# Altium footprint library SMD Capacitors Electrolytic.PcbLib: 12 footprints
Each footprint in its own frame and in the unit in brackets; x right, y up, seen from the top. Pads: shape width x height; smd on the part's side, far side on the other; paste and mask are expansions set on the pad; w line width, h text height; cw(c..) or ccw(c..) is an arc to the next point about the centre after c.
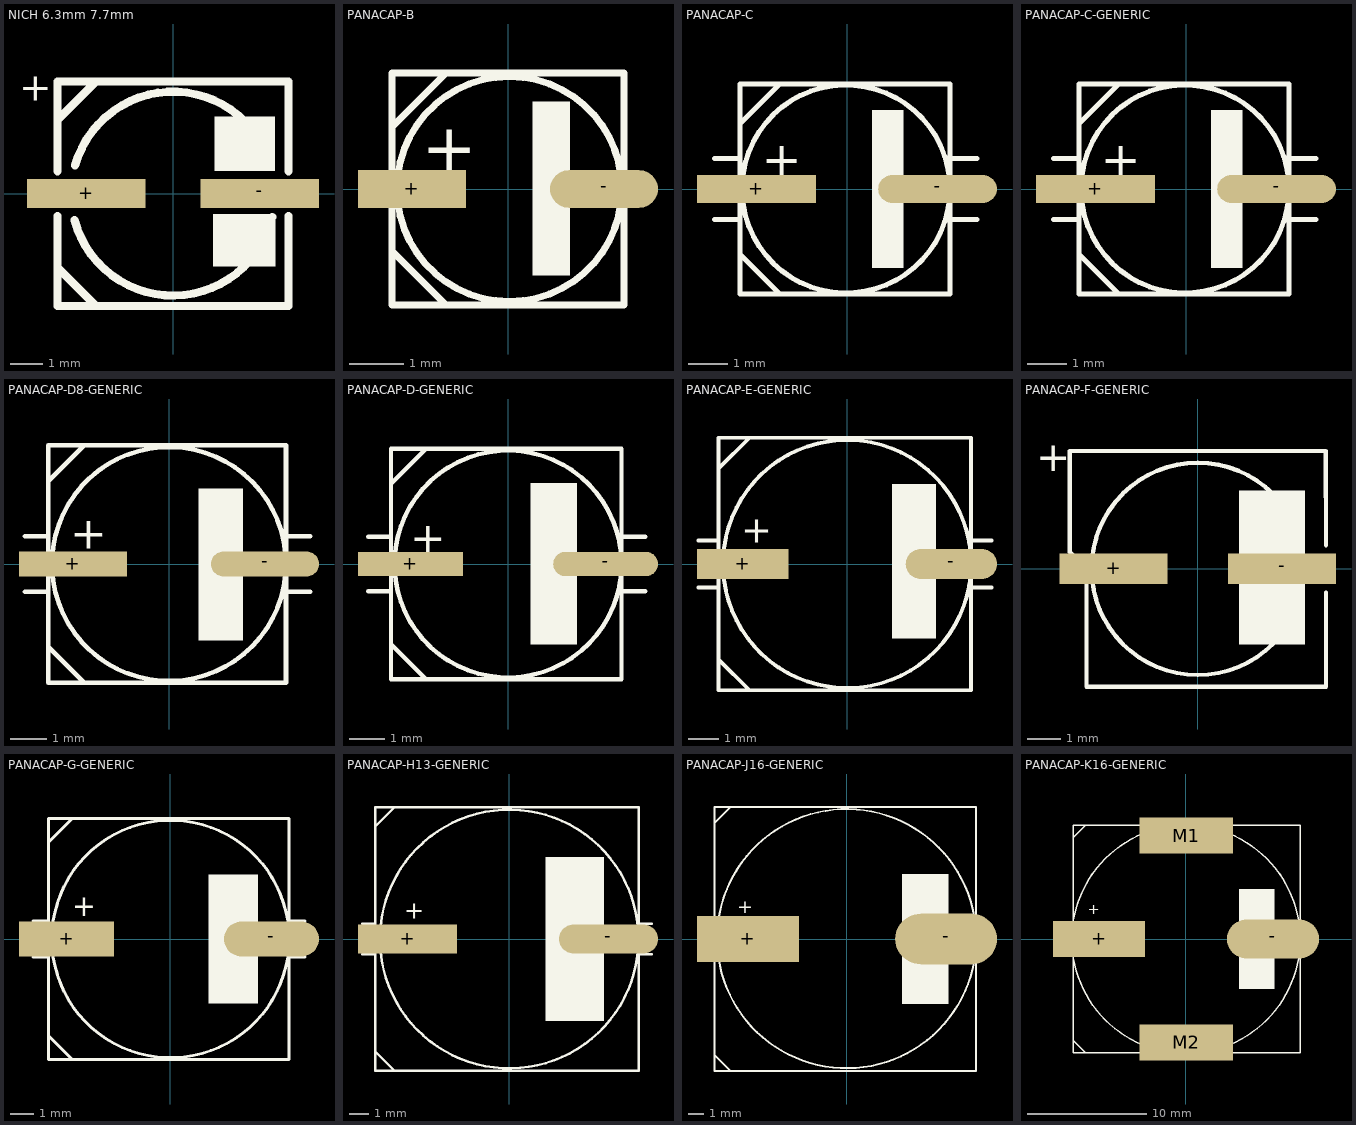
[diagram p0: the footprints below, top view; thin cyan lines are the x and y axes]

## NICH 6.3mm 7.7mm [mm]
height 7.7
pads (2):
  rect 3.7x0.9 smd: +(-2.7,0) -(2.7,0)
Top Overlay:
  rectangle: 1.3,0.7 3.175,2.4
  rectangle: 1.244,-2.278 3.194,-0.628
  lines w0.254: -3.6,-2.3 -2.4,-3.5 ; -3.6,-0.7 -3.6,-3.5 3.6,-3.5 3.6,-0.7 ; -3.6,0.7 -3.6,3.5 3.6,3.5 3.6,0.7 ; -3.6,2.3 -2.4,3.5 ; -3.071,-0.819 ccw(c0,0) 3.094,-0.728 ; -3.056,0.873 cw(c0,0) 3.041,0.922
  text "+" at -4.8,2.9 h0.89
3D body: height 8.05, standoff 0, extent -3.696,-3.403 3.696,3.404

## PANACAP-B [mm]
pads (2):
  rect 2x0.7 smd: +(-1.778,0)
  oval 2x0.7 smd: -(1.778,0)
Top Overlay:
  circle w0.127: c0.025,0 r2.083
  rectangle: 0.45,-1.6 1.15,1.625
  lines w0.127: -2.15,-1.15 -1.15,-2.15 ; -2.15,-0.05 -2.15,0.85 ; -2.15,1.15 -1.15,2.15 -0.85,2.15 ; -2.15,-2.15 -2.15,2.15 2.15,2.15 2.15,-2.15 -2.15,-2.15
  text "+" at -1.6,0.325 h0.89
3D body: height 5.4, standoff 0, extent -2.3,-2.15 2.3,2.15

## PANACAP-C [mm]
pads (2):
  rect 3x0.7 smd: +(-2.286,0)
  oval 3x0.7 smd: -(2.286,0)
Top Overlay:
  circle w0.127: c-0.025,0 r2.625
  rectangle: 0.625,-2 1.425,2
  lines w0.127: -3.35,-0.775 -2.7,-0.775 ; -3.35,0.775 -2.7,0.775 ; -2.7,-1.65 -1.7,-2.65 ; -2.7,1.65 -1.7,2.65 ; 2.6,-0.775 3.275,-0.775 ; 2.6,0.775 3.275,0.775 ; -2.7,-2.65 -2.7,0 -2.7,2.65 2.6,2.65 2.6,-2.65 -2.7,-2.65
  text "+" at -2.15,0.325 h0.89
3D body: height 5.41, standoff 0, extent -2.95,-2.65 2.95,2.65

## PANACAP-C-GENERIC [mm]
pads (2):
  rect 3x0.7 smd: +(-2.286,0)
  oval 3x0.7 smd: -(2.286,0)
Top Overlay:
  circle w0.127: c-0.025,0 r2.625
  rectangle: 0.625,-2 1.425,2
  lines w0.127: -3.35,-0.775 -2.7,-0.775 ; -3.35,0.775 -2.7,0.775 ; -2.7,-1.65 -1.7,-2.65 ; -2.7,1.65 -1.7,2.65 ; 2.6,-0.775 3.275,-0.775 ; 2.6,0.775 3.275,0.775 ; -2.7,-2.65 2.6,-2.65 2.6,2.65 -2.7,2.65 -2.7,0 -2.7,-2.65
  text "+" at -2.15,0.325 h0.89
3D body: height 5.41, standoff 0, extent -2.95,-2.65 2.95,2.65

## PANACAP-D8-GENERIC [mm]
pads (2):
  rect 3x0.7 smd: +(-2.667,0)
  oval 3x0.7 smd: -(2.667,0)
Top Overlay:
  circle w0.127: c0,0 r3.25
  rectangle: 0.825,-2.125 2.05,2.1
  lines w0.127: -4,-0.775 -3.35,-0.775 ; -4,0.775 -3.35,0.775 ; -3.35,-2.65 -3.35,0 ; -3.35,-2.3 -2.35,-3.3 ; -3.35,2.3 -2.35,3.3 ; 3.25,-0.775 3.925,-0.775 ; 3.25,0.775 3.925,0.775 ; -3.35,-3.3 3.25,-3.3 3.25,0 3.25,3.3 -3.35,3.3 -3.35,0 ; -3.35,-3.3 -3.35,-3.3 ; -3.35,-3.3 -3.35,0
  text "+" at -2.75,0.425 h0.89
3D body: height 7.7, standoff 0, extent -3.5,-3.3 3.5,3.3

## PANACAP-D-GENERIC [mm]
pads (2):
  rect 3x0.7 smd: +(-2.794,0)
  oval 3x0.7 smd: -(2.794,0)
Top Overlay:
  circle w0.127: c0,0 r3.25
  rectangle: 0.65,-2.3 1.975,2.325
  lines w0.127: -4,-0.775 -3.35,-0.775 ; -4,0.775 -3.35,0.775 ; -3.35,-2.65 -3.35,0 ; -3.35,-2.3 -2.35,-3.3 ; -3.35,2.3 -2.35,3.3 ; 3.25,-0.775 3.925,-0.775 ; 3.25,0.775 3.925,0.775 ; -3.35,-3.3 3.25,-3.3 3.25,0 3.25,3.3 -3.35,3.3 -3.35,0 ; -3.35,-3.3 -3.35,-3.3 ; -3.35,-3.3 -3.35,0
  text "+" at -2.8,0.325 h0.89
3D body: height 5.4, standoff 0, extent -3.5,-3.3 3.5,3.3

## PANACAP-E-GENERIC [mm]
pads (2):
  rect 3x1 smd: +(-3.429,0)
  oval 3x1 smd: -(3.429,0)
Top Overlay:
  circle w0.127: c0,0 r4.075
  rectangle: 1.475,-2.45 2.925,2.625
  lines w0.127: -4.875,-0.775 -4.225,-0.775 ; -4.875,0.775 -4.225,0.775 ; -4.225,-2.65 -4.225,0 ; -4.225,2.65 -4.225,0 ; -4.2,-3.15 -3.2,-4.15 ; -4.2,3.15 -3.2,4.15 ; 4.075,-0.775 4.75,-0.775 ; 4.075,0 ccw(c0,0) 4.075,0.025 ; 4.075,0.775 4.75,0.775 ; -4.225,-3.3 -4.225,0 ; -4.225,-3.3 -4.225,-3.3 ; -4.225,0 -4.225,-4.15 4.075,-4.15 4.075,-0.025 ; -4.225,0 -4.225,3.3 ; -4.225,0 -4.225,4.15 4.075,4.15 4.075,0.025 ; -4.225,3.3 -4.225,3.3 ; 4.075,-0.025 4.075,-0.025 ; 4.075,0.025 4.075,0.025
  text "+" at -3.475,0.7 h0.89
3D body: height 6.2, standoff 0, extent -4.627,-4.15 4.373,4.15

## PANACAP-F-GENERIC [mm]
pads (2):
  rect 3.2x0.9 smd: +(-2.5,0) -(2.5,0)
Top Overlay:
  circle w0.127: c0,0 r3.15
  rectangle: 1.225,-2.25 3.175,2.325
  lines w0.127: 3.801,-0.7 3.801,-3.5 -3.3,-3.5 -3.3,0 -3.8,0.5 -3.8,3.5 3.8,3.5 3.801,0.7
  text "+" at -4.8,2.9 h0.89
3D body: height 8.05, standoff 0, extent -3.696,-3.403 3.696,3.404

## PANACAP-G-GENERIC [mil]
pads (2):
  rect 160x59.06 smd: +(-175,0)
  oval 160x59.06 smd: -(170,0)
Top Overlay:
  circle w5: c0,0 r199.81
  rectangle: 63.98,-108.27 147.64,108.27
  lines w5: -231.3,-30.51 -205.71,-30.51 ; -231.3,30.51 -205.71,30.51 ; -205.71,-163.39 -205.71,0 ; -205.71,-104.33 -205.71,0 ; -205.71,104.33 -205.71,0 ; -205.71,163.39 -205.71,0 ; -204.72,-163.39 -165.35,-202.76 ; -204.72,163.39 -165.35,202.76 ; 199.8,-30.51 226.38,-30.51 ; 199.81,0 ccw(c39.37,0) 199.8,0.99 ; 199.8,30.51 226.38,30.51 ; -205.71,-202.76 199.8,-202.76 199.8,-0.98 ; -205.71,-202.76 -205.71,-202.76 ; -205.71,-202.76 -205.71,0 ; -205.71,-129.92 -205.71,-129.92 ; -205.71,-129.92 -205.71,0 ; -205.71,0 -205.71,202.76 ; -205.71,0 -205.71,129.92 ; -205.71,129.92 -205.71,129.92 ; -205.71,202.76 199.8,202.76 199.8,0.98 ; -205.71,202.76 -205.71,202.76 ; 199.8,-0.98 199.8,-0.98 ; 199.8,0.98 199.8,0.98
  text "+" at -165.35,38.39 h35
3D body: height 401.57, standoff 0, extent -233.35,-202.75 223.34,202.76

## PANACAP-H13-GENERIC [mm]
pads (2):
  rect 5.08x1.5 smd: +(-5.207,0)
  oval 5.08x1.5 smd: -(5.08,0)
Top Overlay:
  circle w0.127: c0,0 r6.625
  rectangle: 1.85,-4.2 4.85,4.2
  lines w0.127: -7.525,-0.775 -6.875,-0.775 ; -7.525,0.775 -6.875,0.775 ; -6.875,-5.75 -5.875,-6.75 ; -6.875,5.75 -5.875,6.75 ; 6.625,-0.775 7.3,-0.775 ; 6.625,0.775 7.3,0.775 ; -6.875,-6.75 6.625,-6.75 6.625,0 6.625,6.75 -6.875,6.75 ; -6.875,-6.75 -6.875,-6.75 ; -6.875,-6.75 -6.875,0 -6.875,6.75 ; -6.875,6.75 -6.875,6.75 ; -6.875,-5.15 -6.875,-5.15 ; -6.875,5.15 -6.875,5.15
  text "+" at -5.375,1.05 h0.89
3D body: height 13.5, standoff -0.01, extent -7.154,-6.877 6.646,6.623

## PANACAP-J16-GENERIC [mm]
pads (2):
  rect 6.6x3 smd: +(-6.425,0)
  oval 6.6x3.3 smd: -(6.425,0)
Top Overlay:
  rectangle: 3.575,-4.2 6.575,4.2
  lines w0.127: -8.575,-7.55 -7.575,-8.55 ; -8.575,7.55 -7.575,8.55 ; 8.375,0.025 ccw(c-0.025,0.025) 8.375,0 ; -8.6,-6.75 -8.6,-6.75 ; -8.6,-6.75 -8.6,0 ; -8.6,0 -8.6,-8.55 8.35,-8.55 8.375,-8.575 8.375,0 ; -8.6,0 -8.6,6.75 ; -8.6,0 -8.6,8.55 8.35,8.55 8.375,8.575 8.375,0 ; -8.6,6.75 -8.6,6.75 ; -8.6,-5.15 -8.6,-5.15 ; -8.6,5.15 -8.6,5.15
  text "+" at -7.125,1.675 h0.89
3D body: height 16.5, standoff -0.01, extent -8.977,-8.5 8.723,8.5

## PANACAP-K16-GENERIC [mm]
pads (4):
  rect 7.7x3 smd: +(-7.275,0)
  oval 7.7x3.3 smd: -(7.275,0)
  rect 7.8x3 smd: M1(0.025,8.65) M2(0.025,-8.65)
Top Overlay:
  circle w0.127: c0,-0.025 r9.55
  rectangle: 4.425,-4.2 7.425,4.2
  lines w0.127: -9.45,-8.55 -9.45,0 ; -9.45,8.55 -9.45,0 ; -9.425,-8.5 -8.425,-9.5 ; -9.425,8.5 -8.425,9.5 ; 9.55,-0.025 9.55,-9.5 -9.45,-9.5 ; 9.55,0.025 9.55,9.5 -9.45,9.5 ; -9.45,-9.5 -9.45,-9.5 ; -9.45,-9.5 -9.45,0 ; -9.45,-6.75 -9.45,0 ; -9.45,-6.75 -9.45,-6.75 ; -9.45,0 -9.45,9.5 ; -9.45,0 -9.45,6.75 ; -9.45,6.75 -9.45,6.75 ; -9.45,9.5 -9.45,9.5 ; -9.45,-5.15 -9.45,-5.15 ; -9.45,5.15 -9.45,5.15
  text "+" at -8.2,2.075 h0.89
3D body: height 16.5, standoff -0.01, extent -10.05,-9.5 10.05,9.5